# Altium schematic symbol library Passives.SchLib: 4 symbols
Pins are listed as number, name and electrical type; pins without a type are passive.

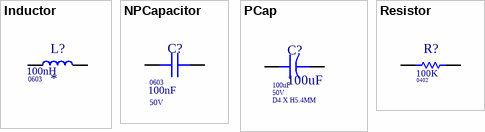
[diagram p0: symbols Inductor to Resistor]

## Inductor
designator L?  Values: 100nH  Package / Case: 0603
URL: *
pins: 1, 2

## NPCapacitor
designator C?, comment Package / Case: 0603  Voltage: 50V  (hidden comment: 100nF)
Tolerance: %10; Value: 100nF
pins: 1, 2

## PCap
designator C?, comment 100uF  Voltage: 50V  Package / Case: D4 X H5.4MM
ESR: 135mOhm; Manufacturer Part Number: *; Value: 100uF
pins: 1, 2

## Resistor
designator R?, comment Package / Case: 0402  (hidden comment: 100K)
Tolerance: %5; Power: 1/10W; Value: 100K
pins: 1, 2